# Altium footprint library ESender_PCB_Lib.PcbLib: 52 footprints (part 2 of 4)
Each footprint in its own frame and in the unit in brackets; x right, y up, seen from the top. Pads: shape width x height; smd on the part's side, far side on the other; paste and mask are expansions set on the pad; w line width, h text height; cw(c..) or ccw(c..) is an arc to the next point about the centre after c.
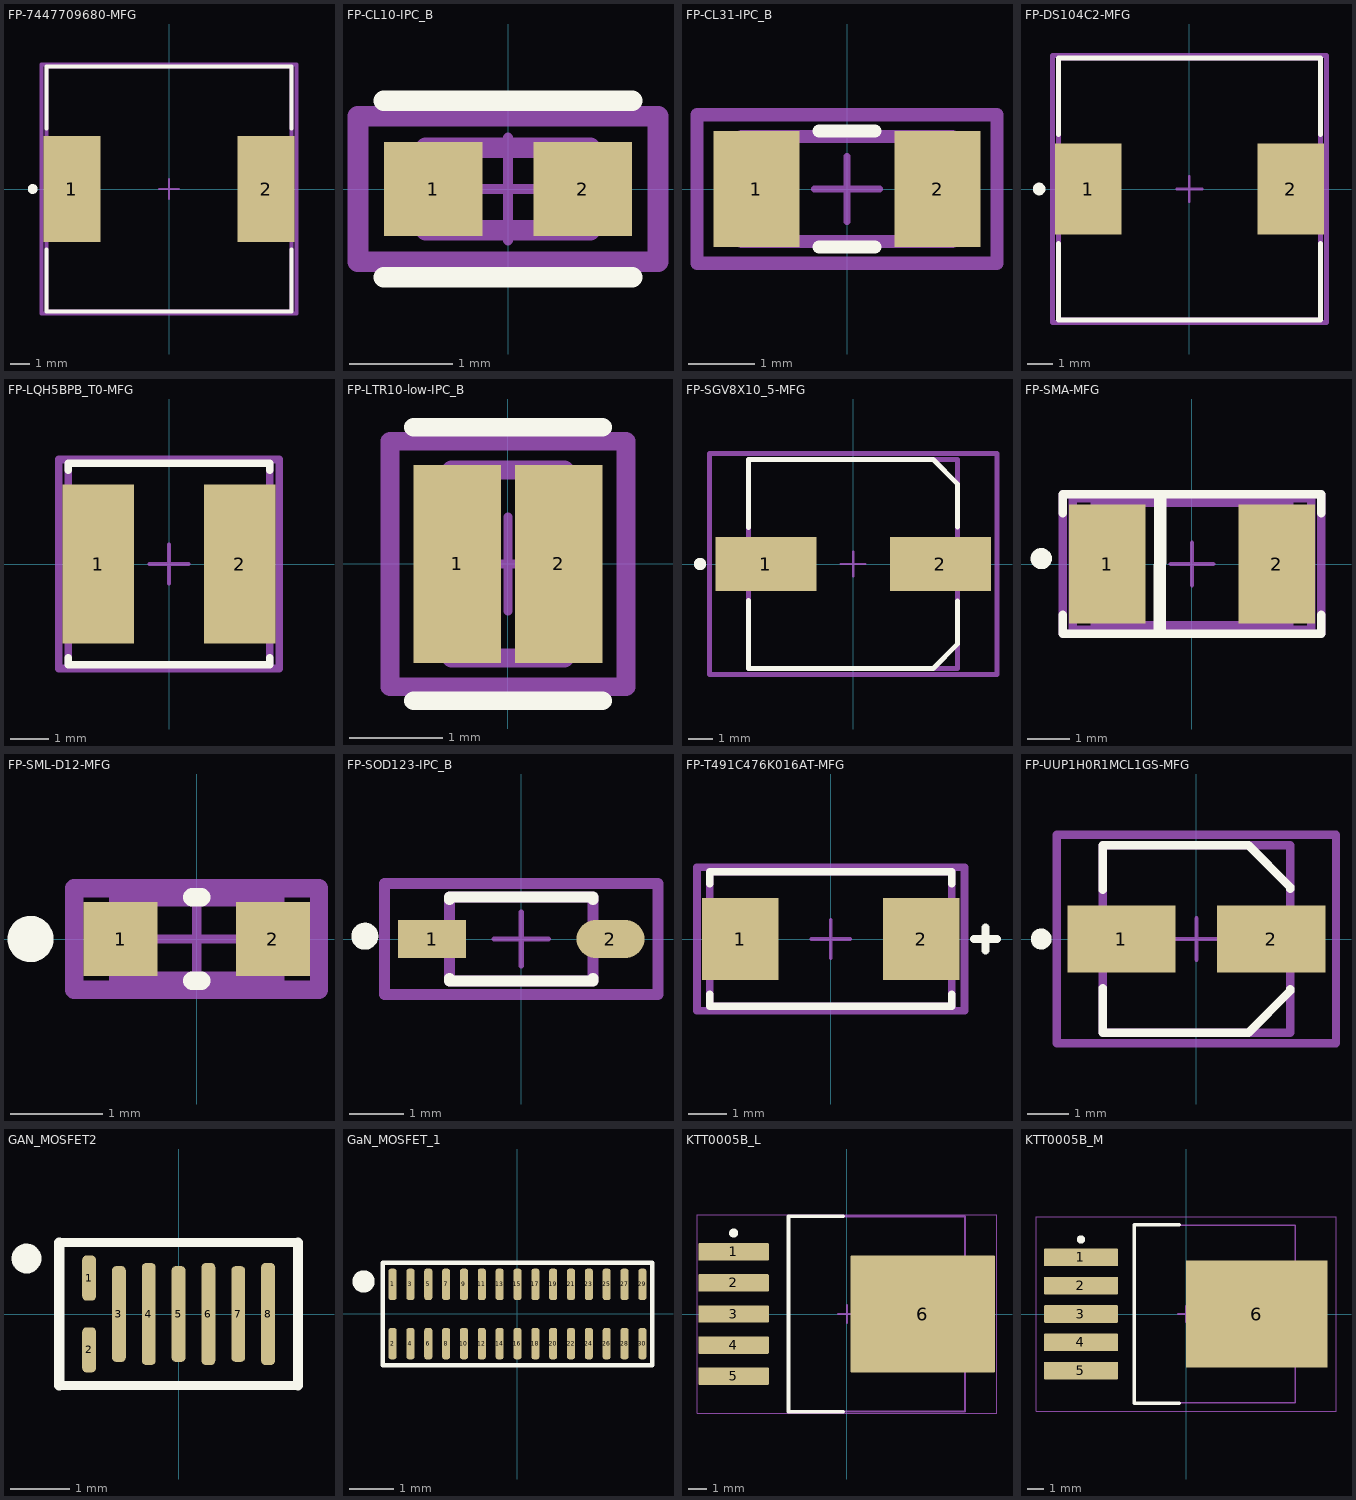
[diagram p1: the footprints below, top view; thin cyan lines are the x and y axes]

## FP-7447709680-MFG [mm]
pads (2):
  rect 2.9x5.4 smd paste+0 mask+0: 1(-4.95,0) 2(4.95,0)
Top Overlay:
  circle w0.25: c-6.95,0 r0.125
  lines w0.2: -6.25,-3.075 -6.25,-6.25 6.25,-6.25 6.25,-3.075 ; -6.25,3.075 -6.25,6.25 6.25,6.25 6.25,3.075
Mechanical 5:
  lines w0.2: -6.5,-6.35 -6.5,6.35 6.5,6.35 6.5,-6.35 -6.5,-6.35 ; -6.25,-6.25 -6.25,6.25 6.25,6.25 6.25,-6.25 -6.25,-6.25
  text ".Designator" at 0,-0.001 h1
Mechanical 15:
  lines w0.2: -6.5,-6.35 -6.5,6.35 6.5,6.35 6.5,-6.35 -6.5,-6.35
Mechanical 16:
  lines w0.1: -0.5,0 0.5,0 ; 0,-0.5 0,0.5
3D body "srr1210-330m.stp": height 10, standoff 0, extent -6,-6 6,6

## FP-CL10-IPC_B [mm]
pads (2):
  rect 0.958x0.912 smd paste+0 mask+0: 1(-0.727,0) 2(0.727,0)
Top Overlay:
  lines w0.2: -1.206,-0.856 1.206,-0.856 ; -1.206,0.856 1.206,0.856
Mechanical 5:
  lines w0.2: -1.456,-0.706 1.456,-0.706 1.456,0.706 -1.456,0.706 -1.456,-0.706
  text ".Designator" at 0,0.188 h1
Mechanical 13:
  lines w0.2: -0.8,-0.4 0.8,-0.4 0.8,0.4 -0.8,0.4 -0.8,-0.4
Mechanical 15:
  lines w0.2: -1.456,-0.706 1.456,-0.706 1.456,0.706 -1.456,0.706 -1.456,-0.706
Mechanical 16:
  lines w0.1: -0.5,0 0.5,0 ; 0,-0.5 0,0.5
3D body "Cap_Samsung_CL10B473KO8NNWC_eec.STEP": height 0.25, standoff 0, extent -1.456,-0.706 1.456,0.706

## FP-CL31-IPC_B [mm]
pads (2):
  rect 1.305x1.758 smd paste+0 mask+0: 1(-1.376,0) 2(1.376,0)
Top Overlay:
  lines w0.2: -0.424,-0.879 0.424,-0.879 ; -0.424,0.879 0.424,0.879
Mechanical 5:
  lines w0.2: -2.279,-1.129 -2.279,1.129 2.279,1.129 2.279,-1.129 -2.279,-1.129
  text ".Designator" at 0,0.188 h1
Mechanical 13:
  lines w0.2: -1.6,-0.8 -1.6,0.8 1.6,0.8 1.6,-0.8 -1.6,-0.8
Mechanical 15:
  lines w0.2: -2.279,-1.129 -2.279,1.129 2.279,1.129 2.279,-1.129 -2.279,-1.129
Mechanical 16:
  lines w0.1: -0.5,0 0.5,0 ; 0,-0.5 0,0.5
3D body "Cap_Samsung_CL31B105KOFNNNE_eec.STEP": height 0.25, standoff 0, extent -2.279,-1.129 2.279,1.129

## FP-DS104C2-MFG [mm]
pads (2):
  rect 2.65x3.6 smd paste+0 mask+0: 1(-4.025,0) 2(4.025,0)
Top Overlay:
  circle w0.25: c-5.975,0 r0.125
  lines w0.2: -5.2,-2.175 -5.2,-5.2 5.2,-5.2 5.2,-2.175 ; -5.2,2.175 -5.2,5.2 5.2,5.2 5.2,2.175
Mechanical 5:
  lines w0.2: -5.45,-5.3 -5.45,5.3 5.45,5.3 5.45,-5.3 -5.45,-5.3
  text ".Designator" at 0,0.188 h1
Mechanical 13:
  lines w0.2: -5.2,-5.2 -5.2,5.2 5.2,5.2 5.2,-5.2 -5.2,-5.2
Mechanical 15:
  lines w0.2: -5.45,-5.3 -5.45,5.3 5.45,5.3 5.45,-5.3 -5.45,-5.3
Mechanical 16:
  lines w0.1: -0.5,0 0.5,0 ; 0,-0.5 0,0.5
3D body "Ind_Murata_#B952AS-H-100M=P3_eec.STEP": height 0.25, standoff 0, extent -5.45,-5.3 5.45,5.3

## FP-LQH5BPB_T0-MFG [mm]
pads (2):
  rect 1.85x4.1 smd paste+0 mask+0: 1(-1.825,0) 2(1.825,0)
Top Overlay:
  lines w0.2: -2.6,-2.425 -2.6,-2.6 2.6,-2.6 2.6,-2.425 ; -2.6,2.425 -2.6,2.6 2.6,2.6 2.6,2.425
Mechanical 5:
  lines w0.2: -2.85,-2.7 -2.85,2.7 2.85,2.7 2.85,-2.7 -2.85,-2.7
  text ".Designator" at 0,0.188 h1
Mechanical 13:
  lines w0.2: -2.6,-2.6 -2.6,2.6 2.6,2.6 2.6,-2.6 -2.6,-2.6
Mechanical 15:
  lines w0.2: -2.85,-2.7 -2.85,2.7 2.85,2.7 2.85,-2.7 -2.85,-2.7
Mechanical 16:
  lines w0.1: -0.5,0 0.5,0 ; 0,-0.5 0,0.5
3D body "Ind_Murata_LQH5BPB2R2NT0L_eec.STEP": height 0.25, standoff 0, extent -2.85,-2.7 2.85,2.7

## FP-LTR10-low-IPC_B [mm]
pads (2):
  rect 0.931x2.112 smd paste+0 mask+0: 1(-0.541,0) 2(0.541,0)
Top Overlay:
  lines w0.2: -1.006,-1.456 1.006,-1.456 ; -1.006,1.456 1.006,1.456
Mechanical 5:
  lines w0.2: -1.256,-1.306 1.256,-1.306 1.256,1.306 -1.256,1.306 -1.256,-1.306
  text ".Designator" at 0,0.188 h1
Mechanical 13:
  lines w0.2: -0.6,-1 0.6,-1 0.6,1 -0.6,1 -0.6,-1
Mechanical 15:
  lines w0.2: -1.256,-1.306 1.256,-1.306 1.256,1.306 -1.256,1.306 -1.256,-1.306
Mechanical 16:
  lines w0.1: -0.5,0 0.5,0 ; 0,-0.5 0,0.5
3D body "Res_Rohm_LTR10EVHFLR360_eec.STEP": height 0.25, standoff 0, extent -1.256,-1.306 1.256,1.306

## FP-SGV8X10_5-MFG [mm]
pads (2):
  rect 4.1x2.2 smd paste+0 mask+0: 1(-3.55,0) 2(3.55,0)
Top Overlay:
  circle w0.25: c-6.225,0 r0.125
  lines w0.2: -4.25,-1.475 -4.25,-4.25 3.25,-4.25 4.25,-3.25 4.25,-1.5 ; -4.25,1.475 -4.25,4.25 3.25,4.25 4.25,3.25 4.25,1.5
Mechanical 5:
  lines w0.2: -5.85,-4.5 -5.85,4.5 5.85,4.5 5.85,-4.5 -5.85,-4.5
  text ".Designator" at 0,0.188 h1
Mechanical 13:
  lines w0.2: -4.25,-4.25 -4.25,4.25 4.25,4.25 4.25,-4.25 -4.25,-4.25
Mechanical 15:
  lines w0.2: -5.85,-4.5 -5.85,4.5 5.85,4.5 5.85,-4.5 -5.85,-4.5
Mechanical 16:
  lines w0.1: -0.5,0 0.5,0 ; 0,-0.5 0,0.5
3D body "Cap_Rubycon_50SGV100M8X10_5_eec.STEP": height 0.25, standoff 0, extent -5.85,-4.5 5.85,4.5

## FP-SMA-MFG [mm]
pads (2):
  rect 1.8x2.8 smd paste+0 mask+0: 1(-2,0) 2(2,0)
Top Overlay:
  circle w0.25: c-3.556,0.127 r0.125
  lines w0.2: -3.048,-1.195 -3.048,-1.651 3.048,-1.651 3.048,-1.195 ; -3.048,1.195 -3.048,1.651 3.048,1.651 3.048,1.195
  lines w0.3: -0.762,-1.524 -0.749,1.524
Mechanical 5:
  lines w0.2: -2.815,-1.55 2.815,-1.55 2.815,1.55 -2.815,1.55 -2.815,-1.55
  text ".Designator" at 0,-0.001 h1
Mechanical 13:
  lines w0.2: -2.3,-1.45 2.3,-1.45 2.3,1.45 -2.3,1.45 -2.3,-1.45
Mechanical 15:
  lines w0.2: -3.048,-1.651 3.048,-1.651 3.048,1.651 -3.048,1.651 -3.048,-1.651
Mechanical 16:
  lines w0.1: -0.5,0 0.5,0 ; 0,-0.5 0,0.5
3D body "Diode_STMicroelectronics_STPS1150A_eec.STEP": height 0.25, standoff 0, extent -2.815,-1.55 2.815,1.55

## FP-SML-D12-MFG [mm]
pads (2):
  rect 0.8x0.8 smd paste+0 mask+0: 1(-0.825,0) 2(0.825,0)
Top Overlay:
  circle w0.25: c-1.8,0 r0.125
  lines w0.2: -0.05,-0.45 0.05,-0.45 ; -0.05,0.45 0.05,0.45
Mechanical 5:
  lines w0.2: -1.325,-0.55 1.325,-0.55 1.325,0.55 -1.325,0.55 -1.325,-0.55
  text ".Designator" at 0,-0.001 h1
Mechanical 13:
  lines w0.2: -0.85,-0.45 0.85,-0.45 0.85,0.45 -0.85,0.45 -0.85,-0.45
Mechanical 15:
  lines w0.2: -1.325,-0.55 1.325,-0.55 1.325,0.55 -1.325,0.55 -1.325,-0.55
Mechanical 16:
  lines w0.1: -0.5,0 0.5,0 ; 0,-0.5 0,0.5
3D body "Diode_Rohm_SML-D12M1WT86_eec.STEP": height 0.25, standoff 0, extent -1.325,-0.55 1.325,0.55

## FP-SOD123-IPC_B [mm]
pads (2):
  rect 1.257x0.702 smd paste+0 mask+0: 1(-1.65,0)
  rrect100% 1.257x0.702 smd paste+0 mask+0: 2(1.65,0)
Top Overlay:
  circle w0.25: c-2.895,0.051 r0.125
  lines w0.2: -1.325,-0.726 -1.325,-0.775 1.325,-0.775 1.325,-0.726 ; -1.325,0.726 -1.325,0.775 1.325,0.775 1.325,0.726
Mechanical 5:
  lines w0.2: -2.529,-1.025 -2.529,1.025 2.529,1.025 2.529,-1.025 -2.529,-1.025
  text ".Designator" at 0,0.188 h1
Mechanical 13:
  lines w0.2: -1.325,-0.775 -1.325,0.775 1.325,0.775 1.325,-0.775 -1.325,-0.775
Mechanical 15:
  lines w0.2: -2.529,-1.025 -2.529,1.025 2.529,1.025 2.529,-1.025 -2.529,-1.025
Mechanical 16:
  lines w0.1: -0.5,0 0.5,0 ; 0,-0.5 0,0.5
3D body "Diode_Diodes_Inc_B0530W-7-F_eec.STEP": height 0.25, standoff 0, extent -2.529,-1.025 2.529,1.025

## FP-T491C476K016AT-MFG [mm]
pads (2):
  rect 1.99x2.13 smd paste+0 mask+0: 1(-2.36,0) 2(2.36,0)
Top Overlay:
  lines w0.2: -3.15,-1.44 -3.15,-1.75 3.15,-1.75 3.15,-1.44 ; -3.15,1.44 -3.15,1.75 3.15,1.75 3.15,1.44 ; 3.725,0 4.325,0 ; 4.025,-0.3 4.025,0.3
Mechanical 5:
  lines w0.2: -3.48,-1.87 -3.48,1.87 3.48,1.87 3.48,-1.87 -3.48,-1.87
  text ".Designator" at 0,-0.001 h1
Mechanical 13:
  lines w0.2: -3.15,-1.75 -3.15,1.75 3.15,1.75 3.15,-1.75 -3.15,-1.75
Mechanical 15:
  lines w0.2: -3.48,-1.87 -3.48,1.87 3.48,1.87 3.48,-1.87 -3.48,-1.87
Mechanical 16:
  lines w0.1: -0.5,0 0.5,0 ; 0,-0.5 0,0.5
3D body "Cap_Kemet_T491C476K016AT_eec.STEP": height 0.25, standoff 0, extent -3.48,-1.87 3.48,1.87

## FP-UUP1H0R1MCL1GS-MFG [mm]
pads (2):
  rect 2.6x1.6 smd paste+0 mask+0: 1(-1.8,0) 2(1.8,0)
Top Overlay:
  circle w0.25: c-3.725,0 r0.125
  lines w0.2: -2.25,-1.175 -2.25,-2.25 1.25,-2.25 2.25,-1.25 2.25,-1.2 ; -2.25,1.175 -2.25,2.25 1.25,2.25 2.25,1.25 2.25,1.2
Mechanical 5:
  lines w0.2: -3.35,-2.5 -3.35,2.5 3.35,2.5 3.35,-2.5 -3.35,-2.5
  text ".Designator" at 0,0.188 h1
Mechanical 13:
  lines w0.2: -2.25,-2.25 -2.25,2.25 2.25,2.25 2.25,-2.25 -2.25,-2.25
Mechanical 15:
  lines w0.2: -3.35,-2.5 -3.35,2.5 3.35,2.5 3.35,-2.5 -3.35,-2.5
Mechanical 16:
  lines w0.1: -0.5,0 0.5,0 ; 0,-0.5 0,0.5
3D body "Cap_Nichicon_UUP1H0R1MCL1GS_eec.STEP": height 0.25, standoff 0, extent -3.35,-2.5 3.35,2.5

## GAN_MOSFET2 [mm]
height 0.52
pads (8):
  rrect60% 0.23x0.755 smd paste+0 mask+0.05: 1(-1.5,0.601) 2(-1.5,-0.601)
  rrect60% 0.23x1.605 smd paste+0 mask+0.05: 3(-1,0) 5(0,0) 7(1,0)
  rrect60% 0.23x1.708 smd paste+0 mask+0.05: 4(-0.5,0) 6(0.5,0) 8(1.5,0)
Top Overlay:
  circle w0.25: c-2.55,0.93 r0.125
  lines w0.15: -2,-1.2 2,-1.2 ; -2,1.2 2,1.2
  lines w0.17: -2,-1.2 -2,1.2 ; 2,-1.2 2,1.2
3D body: height 4.83, standoff 0, extent -1.9,-1.1 1.9,1.1

## GaN_MOSFET_1 [mm]
height 2
pads (30):
  rrect60% 0.18x0.7 smd paste+0.02 mask+0.05: 1(-2.8,0.665) 2(-2.8,-0.665) 3(-2.4,0.665) 4(-2.4,-0.665) 5(-2,0.665) 6(-2,-0.665) 7(-1.6,0.665) 8(-1.6,-0.665) 9(-1.2,0.665) 10(-1.2,-0.665) 11(-0.8,0.665) 12(-0.8,-0.665) 13(-0.4,0.665) 14(-0.4,-0.665) 15(0,0.665) 16(0,-0.665) 17(0.4,0.665) 18(0.4,-0.665) 19(0.8,0.665) 20(0.8,-0.665) 21(1.2,0.665) 22(1.2,-0.665) 23(1.6,0.665) 24(1.6,-0.665) 25(2,0.665) 26(2,-0.665) 27(2.4,0.665) 28(2.4,-0.665) 29(2.8,0.665) 30(2.8,-0.665)
Top Overlay:
  circle w0.25: c-3.45,0.73 r0.125
  lines w0.1: -3.025,-1.15 3.025,-1.15 3.025,1.15 -3.025,1.15 -3.025,-1.15
3D body: height 4.83, standoff 0, extent -3.025,-1.15 3.025,1.15

## KTT0005B_L [mm] "DPAK, 5-Leads, Body 10.65x9.65mm, Pitch 1.7mm, IPC High Density"
height 4.83
pads (6):
  rrect11% 3.85x0.95 smd: 1(-6.2,3.4) 2(-6.2,1.7) 3(-6.2,0) 4(-6.2,-1.7) 5(-6.2,-3.4)
  rrect2% 7.9x6.4 smd: 6(4.15,0)
Top Overlay:
  circle w0.25: c-6.2,4.425 r0.125
  lines w0.2: -0.2,-5.35 -3.2,-5.35 -3.2,5.35 -0.2,5.35
Mechanical 1:
  text ".Designator" at -1.905,-0.508 h1.3
Mechanical 13:
  lines w0.1: -3.2,-5.325 -3.2,5.325 6.45,5.325 6.45,-5.325 -3.2,-5.325
Mechanical 15:
  lines w0.05: -8.2,-5.425 -8.2,5.425 8.2,5.425 8.2,-5.425 -8.2,-5.425
  lines w0.1: -0.5,0 0.5,0 ; 0,-0.5 0,0.5
3D body: height 4.83, standoff 0, extent -3.2,-5.325 6.45,5.325

## KTT0005B_M [mm] "DPAK, 5-Leads, Body 10.65x9.65mm, Pitch 1.7mm, IPC Low Density"
height 4.83
pads (6):
  rrect10% 4.45x1.05 smd: 1(-6.3,3.4) 2(-6.3,1.7) 3(-6.3,0) 4(-6.3,-1.7) 5(-6.3,-3.4)
  rrect2% 8.5x6.45 smd: 6(4.25,0)
Top Overlay:
  circle w0.25: c-6.3,4.475 r0.125
  lines w0.2: -0.4,-5.35 -3.1,-5.35 -3.1,5.35 -0.4,5.35
Mechanical 1:
  text ".Designator" at -1.905,-0.635 h1.3
Mechanical 13:
  lines w0.1: -3.1,-5.325 -3.1,5.325 6.55,5.325 6.55,-5.325 -3.1,-5.325
Mechanical 15:
  lines w0.05: -9,-5.825 -9,5.825 9,5.825 9,-5.825 -9,-5.825
  lines w0.1: -0.5,0 0.5,0 ; 0,-0.5 0,0.5
3D body: height 4.83, standoff 0, extent -3.1,-5.325 6.55,5.325